# EAGLE library part Q_ADM485 (library MRDT-2014-All)
IC, RS485 TRANSCEIVER, 5MBPS, 5.25V DIP8
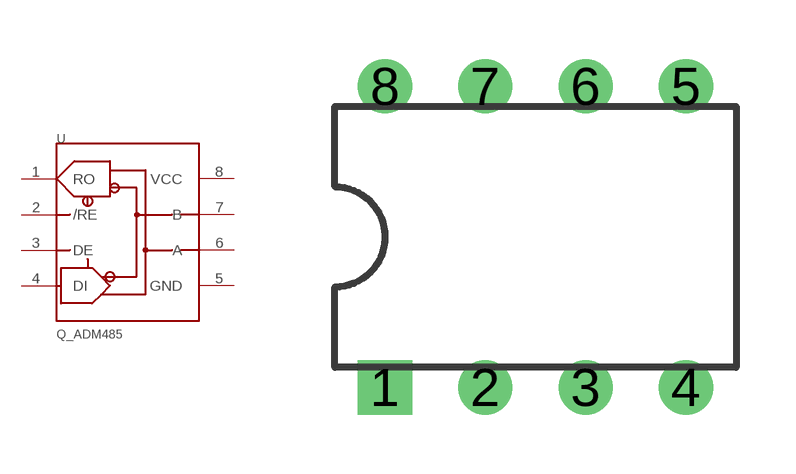
[diagram p8: symbol with the pads of DIP8; footprint DIP8]

Designator prefix -

## Q_ADM485  [DIP8]
1  RO
2  /RE
3  DE
4  DI
5  GND
6  A
7  B
8  VCC

## Footprint DIP8 (pad centres in mm)
drill 0.864 square: 1 -3.81,-3.81
drill 0.864: 2 -1.27,-3.81; 3 1.27,-3.81; 4 3.81,-3.81; 5 3.81,3.81; 6 1.27,3.81; 7 -1.27,3.81; 8 -3.81,3.81